# Altium footprint library terminal.PcbLib: 49 footprints (part 3 of 4)
Each footprint in its own frame and in the unit in brackets; x right, y up, seen from the top. Pads: shape width x height; smd on the part's side, far side on the other; paste and mask are expansions set on the pad; w line width, h text height; cw(c..) or ccw(c..) is an arc to the next point about the centre after c.
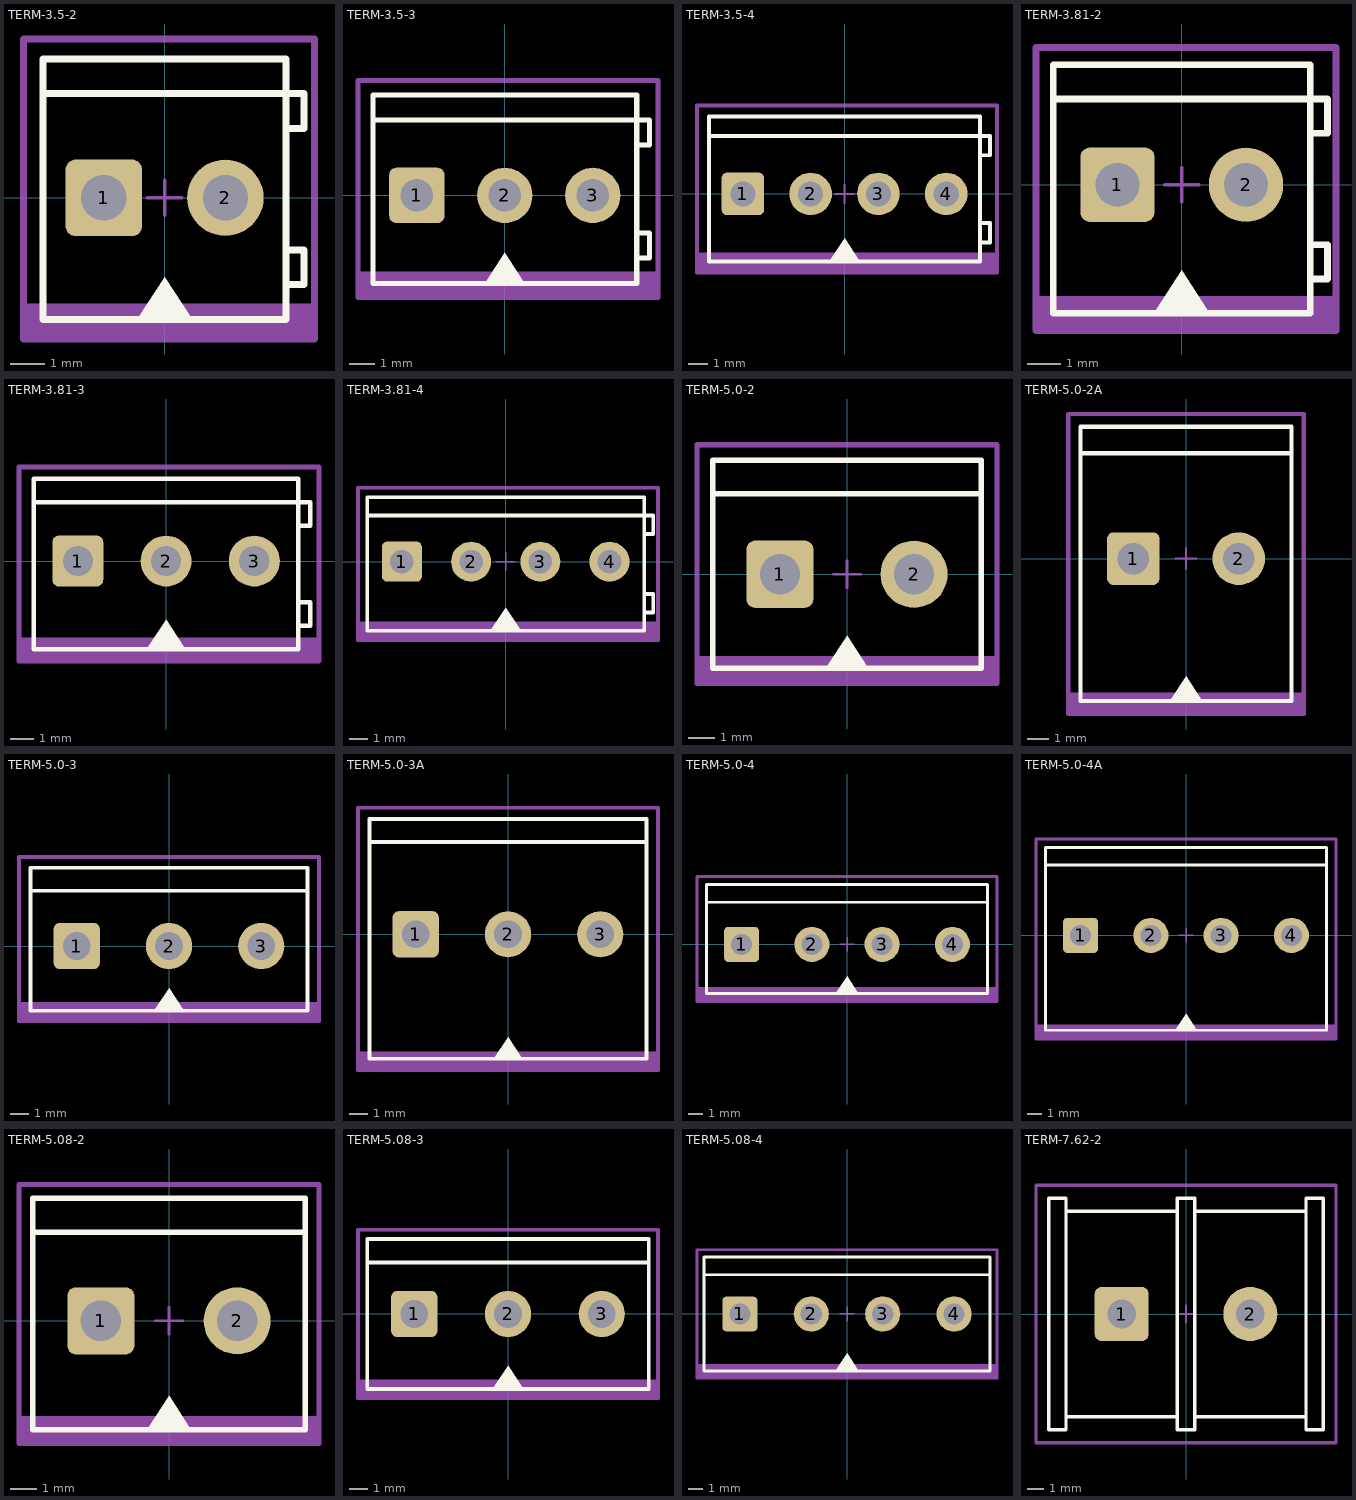
[diagram p2: the footprints below, top view; thin cyan lines are the x and y axes]

## TERM-3.5-2 [mm]
pads (2):
  rrect25% 2.2x2.2 hole 1.3: 1(-1.75,0)
  round 2.2 hole 1.3: 2(1.75,0)
Top Overlay:
  region: 0,-2.286 -0.762,-3.448 0.762,-3.448
  lines w0.2: -3.5,3 3.5,3 4,3 ; 3.5,-2.5 4,-2.5 ; 3.5,-1.5 4.008,-1.5 4.008,-2.5 ; 3.5,2 4.008,2 4.008,3 ; -3.5,-3.5 3.5,-3.5 3.5,4 -3.5,4 -3.5,-3.5
Mechanical 13:
  region: 4.318,-4.064 4.318,-3.048 -4.064,-3.048 -4.064,-4.064
  lines w0.2: -4.064,-4.064 -4.064,4.572 4.318,4.572 4.318,-4.064 -4.064,-4.064
  text ".Designator" at -3.302,-0.762 h2
Mechanical 15:
  lines w0.05: -4.064,-4.064 4.318,-4.064 4.318,4.572 -4.064,4.572 -4.064,-4.064
  lines w0.1: -0.5,0 0.5,0 ; 0,-0.5 0,0.5

## TERM-3.5-3 [mm]
pads (3):
  rrect25% 2.2x2.2 hole 1.3: 1(-3.5,0)
  round 2.2 hole 1.3: 2(0,0) 3(3.5,0)
Top Overlay:
  region: 0,-2.286 -0.762,-3.448 0.762,-3.448
  lines w0.2: -5.25,3 5.25,3 5.75,3 ; 5.25,-2.5 5.75,-2.5 ; 5.25,-1.5 5.758,-1.5 5.758,-2.5 ; 5.25,2 5.758,2 5.758,3 ; -5.25,-3.5 -5.25,4 5.25,4 5.25,-3.5 -5.25,-3.5
Mechanical 13:
  region: 6.096,-4.064 6.096,-3.048 -5.842,-3.048 -5.842,-4.064
  lines w0.2: -5.842,-4.064 6.096,-4.064 6.096,4.572 -5.842,4.572 -5.842,-4.064
  text ".Designator" at -3.302,-0.5 h2
Mechanical 15:
  lines w0.05: -5.842,-4.064 6.096,-4.064 6.096,4.572 -5.842,4.572 -5.842,-4.064
  lines w0.1: -0.5,0 0.5,0 ; 0,-0.5 0,0.5

## TERM-3.5-4 [mm]
pads (4):
  rrect25% 2.2x2.2 hole 1.3: 1(-5.25,0)
  round 2.2 hole 1.3: 2(-1.75,0) 3(1.75,0) 4(5.25,0)
Top Overlay:
  region: 0,-2.286 -0.762,-3.448 0.762,-3.448
  lines w0.2: -7,3 7,3 7.5,3 ; 7,-2.5 7.5,-2.5 ; 7,-1.5 7.508,-1.5 7.508,-2.5 ; 7,2 7.508,2 7.508,3 ; -7,-3.5 7,-3.5 7,4 -7,4 -7,-3.5
Mechanical 13:
  region: 7.874,-4.064 7.874,-3.048 -7.62,-3.048 -7.62,-4.064
  lines w0.2: -7.62,-4.064 -7.62,4.572 7.874,4.572 7.874,-4.064 -7.62,-4.064
  text ".Designator" at -3.302,-0.762 h2
Mechanical 15:
  lines w0.05: -7.62,-4.064 -7.62,4.572 7.874,4.572 7.874,-4.064 -7.62,-4.064
  lines w0.1: -0.5,0 0.5,0 ; 0,-0.5 0,0.5

## TERM-3.81-2 [mm]
pads (2):
  rrect25% 2.2x2.2 hole 1.3: 1(-1.905,0)
  round 2.2 hole 1.3: 2(1.905,0)
Top Overlay:
  region: 0,-2.54 -0.762,-3.702 0.762,-3.702
  lines w0.2: -3.81,2.54 3.81,2.54 4.318,2.54 4.318,1.524 3.81,1.524 ; 3.81,-2.794 4.318,-2.794 4.318,-1.778 3.81,-1.778 ; -3.81,-3.81 -3.81,3.556 3.81,3.556 3.81,-3.81 -3.81,-3.81
Mechanical 13:
  region: 4.572,-4.318 4.572,-3.302 -4.318,-3.302 -4.318,-4.318
  lines w0.2: -4.318,-4.318 -4.318,4.064 4.572,4.064 4.572,-4.318 -4.318,-4.318
  text ".Designator" at -3.302,-0.762 h2
Mechanical 15:
  lines w0.05: -4.318,-4.318 4.572,-4.318 4.572,4.064 -4.318,4.064 -4.318,-4.318
  lines w0.1: -0.5,0 0.5,0 ; 0,-0.5 0,0.5

## TERM-3.81-3 [mm]
pads (3):
  rrect25% 2.2x2.2 hole 1.3: 1(-3.81,0)
  round 2.2 hole 1.3: 2(0,0) 3(3.81,0)
Top Overlay:
  region: 0,-2.54 -0.762,-3.702 0.762,-3.702
  lines w0.2: -5.715,2.54 5.715,2.54 6.223,2.54 6.223,1.524 5.715,1.524 ; 5.715,-2.794 6.223,-2.794 6.223,-1.778 5.715,-1.778 ; -5.715,-3.81 -5.715,3.556 5.715,3.556 5.715,-3.81 -5.715,-3.81
Mechanical 13:
  region: 6.604,-4.318 6.604,-3.302 -6.35,-3.302 -6.35,-4.318
  lines w0.2: -6.35,-4.318 -6.35,4.064 6.604,4.064 6.604,-4.318 -6.35,-4.318
  text ".Designator" at -3.302,-1.016 h2
Mechanical 15:
  lines w0.05: -6.35,-4.318 6.604,-4.318 6.604,4.064 -6.35,4.064 -6.35,-4.318
  lines w0.1: -0.5,0 0.5,0 ; 0,-0.5 0,0.5

## TERM-3.81-4 [mm]
pads (4):
  rrect25% 2.2x2.2 hole 1.3: 1(-5.715,0)
  round 2.2 hole 1.3: 2(-1.905,0) 3(1.905,0) 4(5.715,0)
Top Overlay:
  region: 0,-2.54 -0.762,-3.702 0.762,-3.702
  lines w0.2: -7.62,2.54 7.62,2.54 8.128,2.54 8.128,1.524 7.62,1.524 ; 7.62,-2.794 8.128,-2.794 8.128,-1.778 7.62,-1.778 ; -7.62,-3.81 7.62,-3.81 7.62,3.556 -7.62,3.556 -7.62,-3.81
Mechanical 13:
  region: 8.382,-4.318 8.382,-3.302 -8.128,-3.302 -8.128,-4.318
  lines w0.2: -8.128,-4.318 -8.128,4.064 8.382,4.064 8.382,-4.318 -8.128,-4.318
  text ".Designator" at -3.302,-1.016 h2
Mechanical 15:
  lines w0.05: -8.128,-4.318 -8.128,4.064 8.382,4.064 8.382,-4.318 -8.128,-4.318
  lines w0.1: -0.5,0 0.5,0 ; 0,-0.5 0,0.5

## TERM-5.0-2 [mm]
pads (2):
  rrect25% 2.5x2.5 hole 1.5: 1(-2.5,0)
  round 2.5 hole 1.5: 2(2.5,0)
Top Overlay:
  region: 0,-2.286 -0.762,-3.448 0.762,-3.448
  lines w0.2: -5,3 5,3 ; -5,-3.5 5,-3.5 5,4.25 -5,4.25 -5,-3.5
Mechanical 13:
  region: 5.588,-4.064 5.588,-3.048 -5.588,-3.048 -5.588,-4.064
  lines w0.2: -5.588,-4.064 -5.588,4.826 5.588,4.826 5.588,-4.064 -5.588,-4.064
  text ".Designator" at -3.81,-1.016 h2.4
Mechanical 15:
  lines w0.05: -5.588,-4.064 5.588,-4.064 5.588,4.826 -5.588,4.826 -5.588,-4.064
  lines w0.1: -0.5,0 0.5,0 ; 0,-0.5 0,0.5

## TERM-5.0-2A [mm]
pads (2):
  rrect25% 2.5x2.5 hole 1.5: 1(-2.5,0)
  round 2.5 hole 1.5: 2(2.5,0)
Top Overlay:
  region: 0,-5.588 -0.762,-6.75 0.762,-6.75
  lines w0.2: -5,5 5,5 ; -5,-6.75 -5,6.25 5,6.25 5,-6.75 -5,-6.75
Mechanical 13:
  region: 5.588,-7.366 5.588,-6.35 -5.588,-6.35 -5.588,-7.366
  lines w0.2: -5.588,-7.366 -5.588,6.858 5.588,6.858 5.588,-7.366 -5.588,-7.366
  text ".Designator" at -3.81,-1.27 h2.4
Mechanical 15:
  lines w0.05: -5.588,-7.366 -5.588,6.858 5.588,6.858 5.588,-7.366 -5.588,-7.366
  lines w0.1: -0.5,0 0.5,0 ; 0,-0.5 0,0.5

## TERM-5.0-3 [mm]
pads (3):
  rrect25% 2.5x2.5 hole 1.5: 1(-5,0)
  round 2.5 hole 1.5: 2(0,0) 3(5,0)
Top Overlay:
  region: 0,-2.286 -0.762,-3.448 0.762,-3.448
  lines w0.2: -7.5,3 7.5,3 ; -7.5,-3.5 -7.5,4.25 7.5,4.25 7.5,-3.5 -7.5,-3.5
Mechanical 13:
  region: 8.128,-4.064 8.128,-3.048 -8.128,-3.048 -8.128,-4.064
  lines w0.2: -8.128,-4.064 -8.128,4.826 8.128,4.826 8.128,-4.064 -8.128,-4.064
  text ".Designator" at -4.064,-1.016 h2.4
Mechanical 15:
  lines w0.05: -8.128,-4.064 -8.128,4.826 8.128,4.826 8.128,-4.064 -8.128,-4.064
  lines w0.1: -0.5,0 0.5,0 ; 0,-0.5 0,0.5

## TERM-5.0-3A [mm]
pads (3):
  rrect25% 2.5x2.5 hole 1.5: 1(-5,0)
  round 2.5 hole 1.5: 2(0,0) 3(5,0)
Top Overlay:
  region: 0,-5.588 -0.762,-6.75 0.762,-6.75
  lines w0.2: -7.5,5 7.5,5 ; -7.5,-6.75 -7.5,6.25 7.5,6.25 7.5,-6.75 -7.5,-6.75
Mechanical 13:
  region: 8.128,-7.366 8.128,-6.35 -8.128,-6.35 -8.128,-7.366
  lines w0.2: -8.128,-7.366 -8.128,6.858 8.128,6.858 8.128,-7.366 -8.128,-7.366
  text ".Designator" at -3.81,-1.27 h2.4
Mechanical 15:
  lines w0.05: -8.128,-7.366 -8.128,6.858 8.128,6.858 8.128,-7.366 -8.128,-7.366
  lines w0.1: -0.5,0 0.5,0 ; 0,-0.5 0,0.5

## TERM-5.0-4 [mm]
pads (4):
  rrect25% 2.5x2.5 hole 1.5: 1(-7.5,0)
  round 2.5 hole 1.5: 2(-2.5,0) 3(2.5,0) 4(7.5,0)
Top Overlay:
  region: 0,-2.286 -0.762,-3.448 0.762,-3.448
  lines w0.2: -10,3 10,3 ; -10,-3.5 10,-3.5 10,4.25 -10,4.25 -10,-3.5
Mechanical 13:
  region: 10.668,-4.064 10.668,-3.048 -10.668,-3.048 -10.668,-4.064
  lines w0.2: -10.668,-4.064 -10.668,4.826 10.668,4.826 10.668,-4.064 -10.668,-4.064
  text ".Designator" at -3.81,-1.016 h2.4
Mechanical 15:
  lines w0.05: -10.668,-4.064 10.668,-4.064 10.668,4.826 -10.668,4.826 -10.668,-4.064
  lines w0.1: -0.5,0 0.5,0 ; 0,-0.5 0,0.5

## TERM-5.0-4A [mm]
pads (4):
  rrect25% 2.5x2.5 hole 1.5: 1(-7.5,0)
  round 2.5 hole 1.5: 2(-2.5,0) 3(2.5,0) 4(7.5,0)
Top Overlay:
  region: 0,-5.588 -0.762,-6.75 0.762,-6.75
  lines w0.2: -10,5 10,5 ; -10,-6.75 -10,6.25 10,6.25 10,-6.75 -10,-6.75
Mechanical 13:
  region: 10.668,-7.366 10.668,-6.35 -10.668,-6.35 -10.668,-7.366
  lines w0.2: -10.668,-7.366 -10.668,6.858 10.668,6.858 10.668,-7.366 -10.668,-7.366
  text ".Designator" at -3.81,-1.27 h2.4
Mechanical 15:
  lines w0.05: -10.668,-7.366 -10.668,6.858 10.668,6.858 10.668,-7.366 -10.668,-7.366
  lines w0.1: -0.5,0 0.5,0 ; 0,-0.5 0,0.5

## TERM-5.08-2 [mm]
pads (2):
  rrect25% 2.5x2.5 hole 1.5: 1(-2.54,0)
  round 2.5 hole 1.5: 2(2.54,0)
Top Overlay:
  region: 0,-2.794 -0.762,-3.956 0.762,-3.956
  lines w0.2: -5.08,3.302 5.08,3.302 ; -5.08,-4.064 5.08,-4.064 5.08,4.572 -5.08,4.572 -5.08,-4.064
Mechanical 13:
  region: 5.588,-4.572 5.588,-3.556 -5.588,-3.556 -5.588,-4.572
  lines w0.2: -5.588,-4.572 -5.588,5.08 5.588,5.08 5.588,-4.572 -5.588,-4.572
  text ".Designator" at -3.81,-1.016 h2.4
Mechanical 15:
  lines w0.05: -5.588,-4.572 5.588,-4.572 5.588,5.08 -5.588,5.08 -5.588,-4.572
  lines w0.1: -0.5,0 0.5,0 ; 0,-0.5 0,0.5

## TERM-5.08-3 [mm]
pads (3):
  rrect25% 2.5x2.5 hole 1.5: 1(-5.08,0)
  round 2.5 hole 1.5: 2(0,0) 3(5.08,0)
Top Overlay:
  region: 0,-2.794 -0.762,-3.956 0.762,-3.956
  lines w0.2: -7.62,2.794 7.62,2.794 ; -7.62,-4.064 7.62,-4.064 7.62,4.064 -7.62,4.064 -7.62,-4.064
Mechanical 13:
  region: 8.128,-4.572 8.128,-3.556 -8.128,-3.556 -8.128,-4.572
  lines w0.2: -8.128,-4.572 8.128,-4.572 8.128,4.572 -8.128,4.572 -8.128,-4.572
  text ".Designator" at -3.81,-1.016 h2.4
Mechanical 15:
  lines w0.05: -8.128,-4.572 8.128,-4.572 8.128,4.572 -8.128,4.572 -8.128,-4.572
  lines w0.1: -0.5,0 0.5,0 ; 0,-0.5 0,0.5

## TERM-5.08-4 [mm]
pads (4):
  rrect25% 2.5x2.5 hole 1.5: 1(-7.62,0)
  round 2.5 hole 1.5: 2(-2.54,0) 3(2.54,0) 4(7.62,0)
Top Overlay:
  region: 0,-2.794 -0.762,-3.956 0.762,-3.956
  lines w0.2: -10.16,2.794 10.16,2.794 ; -10.16,-4.064 -10.16,4.064 10.16,4.064 10.16,-4.064 -10.16,-4.064
Mechanical 13:
  region: 10.668,-4.572 10.668,-3.556 -10.668,-3.556 -10.668,-4.572
  lines w0.2: -10.668,-4.572 10.668,-4.572 10.668,4.572 -10.668,4.572 -10.668,-4.572
  text ".Designator" at -3.81,-1.016 h2.4
Mechanical 15:
  lines w0.05: -10.668,-4.572 -10.668,4.572 10.668,4.572 10.668,-4.572 -10.668,-4.572
  lines w0.1: -0.5,0 0.5,0 ; 0,-0.5 0,0.5

## TERM-7.62-2 [mm]
pads (2):
  rrect25% 3.2x3.2 hole 1.7: 1(-3.81,0)
  round 3.2 hole 1.7: 2(3.81,0)
Top Overlay:
  lines w0.2: -7.112,-6.096 -0.508,-6.096 ; -7.112,6.096 -0.508,6.096 ; 0.508,-6.096 7.112,-6.096 ; 0.508,6.096 7.112,6.096 ; -8.128,-6.858 -8.128,6.858 -7.112,6.858 -7.112,-6.858 -8.128,-6.858 ; -0.508,-6.858 -0.508,6.858 0.508,6.858 0.508,-6.858 -0.508,-6.858 ; 7.112,-6.858 7.112,6.858 8.128,6.858 8.128,-6.858 7.112,-6.858
Mechanical 13:
  lines w0.2: -8.89,-7.62 -8.89,7.62 8.89,7.62 8.89,-7.62 -8.89,-7.62
  text ".Designator" at -5.08,-1.524 h3
Mechanical 15:
  lines w0.05: -8.89,-7.62 8.89,-7.62 8.89,7.62 -8.89,7.62 -8.89,-7.62
  lines w0.1: -0.5,0 0.5,0 ; 0,-0.5 0,0.5